# EAGLE library part TPS2110 (library IC)
TI's Power Mux. Switches between two power sources with different applications.
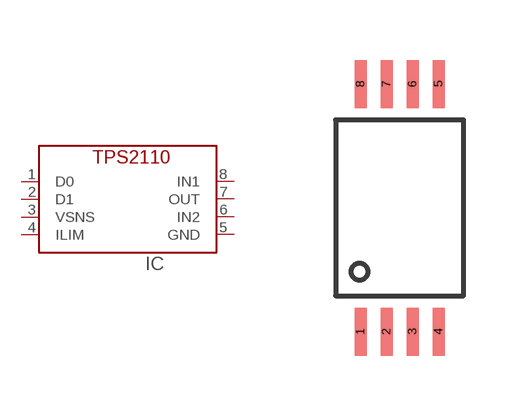
[diagram p200: symbol with the pads of TSSOP8; footprint TSSOP8]

Designator prefix IC

## TPS2110  [TSSOP8]
1  D0
2  D1
3  VSNS
4  ILIM
5  GND  pwr
6  IN2  pwr
7  OUT  pwr
8  IN1  pwr

## Footprint TSSOP8 (pad centres in mm)
smd 0.3 x 1.2: 1 -0.975,-3.1; 2 -0.325,-3.1; 3 0.325,-3.1; 4 0.975,-3.1; 5 0.975,3.1; 6 0.325,3.1; 7 -0.325,3.1; 8 -0.975,3.1